# EAGLE library part CD4067B (library 1dah)
16 channel analog multiplexer
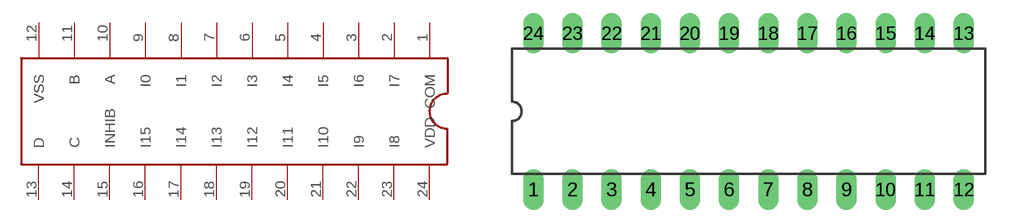
[diagram p6: symbol with the pads of DIL24-4; footprint DIL24-4]

Designator prefix -

## CD4067B  [DIL24-4]
1  COM
2  I7
3  I6
4  I5
5  I4
6  I3
7  I2
8  I1
9  I0
10  A
11  B
12  VSS
13  D
14  C
15  INHIB
16  I15
17  I14
18  I13
19  I12
20  I11
21  I10
22  I9
23  I8
24  VDD

## Footprint DIL24-4 (pad centres in mm)
Dual In Line Package 0.4 inch
drill 0.813 long: 1 -13.97,-5.08; 2 -11.43,-5.08; 3 -8.89,-5.08; 4 -6.35,-5.08; 5 -3.81,-5.08; 6 -1.27,-5.08; 7 1.27,-5.08; 8 3.81,-5.08; 9 6.35,-5.08; 10 8.89,-5.08; 11 11.43,-5.08; 12 13.97,-5.08; 13 13.97,5.08; 14 11.43,5.08; 15 8.89,5.08; 16 6.35,5.08; 17 3.81,5.08; 18 1.27,5.08; 19 -1.27,5.08; 20 -3.81,5.08; 21 -6.35,5.08; 22 -8.89,5.08; 23 -11.43,5.08; 24 -13.97,5.08